# EAGLE library part ADE-11X (library MSA_lib)
RF Mixer
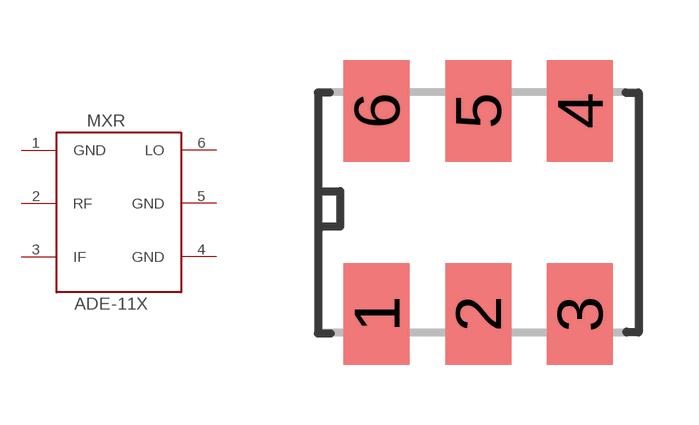
[diagram p9: symbol with the pads of ADE-11X; footprint ADE-11X]

Designator prefix MXR

## ADE-11X (VENDOR: minicirquits)  [ADE-11X]
1  GND
2  RF
3  IF
4  GND
5  GND
6  LO

## Footprint ADE-11X (pad centres in mm)
smd 1.65 x 2.54: 1 -2.54,-2.54; 2 0,-2.54; 3 2.54,-2.54; 4 2.54,2.54; 5 0,2.54; 6 -2.54,2.54